# Altium schematic symbol library FRX010.SchLib: 1 symbol
Pins are listed as number, name and electrical type; pins without a type are passive.

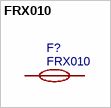
[diagram p0: symbol FRX010]

## FRX010
designator F?
自恢复保险丝; spicePre: F
footprint FUSE-0.2
footprint FUSE-0.3
pins: 1, 2